# EAGLE library part T816108A1S102CEU (library T816108A1S102CEU)
Amphenol T816 Series, 2.54mm Pitch 8 Way 2 Row Straight PCB Header, Solder Termination, 3A Source: Datasheet <https://docs.rs-online.com/fce6/0900766b81359cbb.pdf>
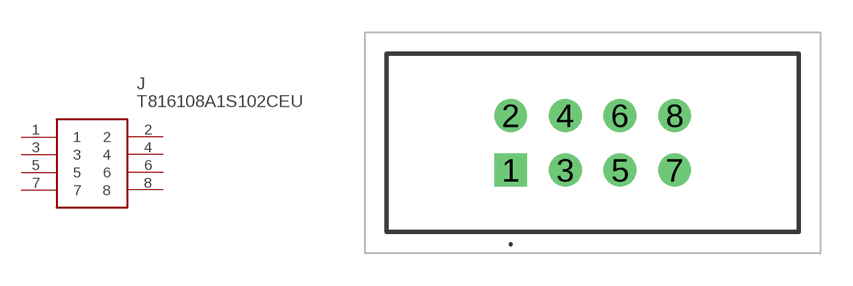
[diagram p0: symbol with the pads of T816108A1S102CEU; footprint T816108A1S102CEU]

Designator prefix J

## T816108A1S102CEU (Description: Amphenol T816 Series, 2.54mm Pitch 8 Way 2 Row Straight PCB Header, Solder Termination, 3A; Height: 27.2mm; Manufacturer_Name: Amphenol; Manufacturer_Part_Number: T816108A1S102CEU)  [T816108A1S102CEU]
1  1
2  2
3  3
4  4
5  5
6  6
7  7
8  8

## Footprint T816108A1S102CEU (pad centres in mm)
T816108A1S102CEU-1
drill 1.02 pad 1.53 square: 1 0,0
drill 1.02 pad 1.53: 2 0,2.54; 3 2.54,0; 4 2.54,2.54; 5 5.08,0; 6 5.08,2.54; 7 7.62,0; 8 7.62,2.54